# EAGLE library part NANO (library Arduino-clone)
Arduino Nano
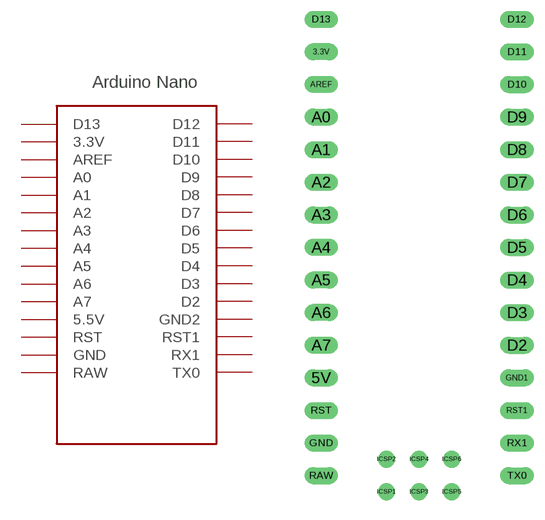
[diagram p3: symbol with the pads of NANO; footprint NANO]

Designator prefix -

## NANO  [NANO]
3.3V  3.3V
5V  5.5V
A0  A0
A1  A1
A2  A2
A3  A3
A4  A4
A5  A5
A6  A6
A7  A7
AREF  AREF
D2  D2
D3  D3
D4  D4
D5  D5
D6  D6
D7  D7
D8  D8
D9  D9
D10  D10
D11  D11
D12  D12
D13  D13
GND  GND
GND1  GND2
ICSP1  ICSP1
ICSP2  ICSP2
ICSP3  ICSP3
ICSP4  ICSP4
ICSP5  ICSP5
ICSP6  ICSP6
RAW  RAW
RST  RST
RST1  RST1
RX1  RX1
TX0  TX0

## Footprint NANO (pad centres in mm)
drill 0.8 long: 3.3V -7.62,19.05; 5V -7.62,-6.35; A0 -7.62,13.97; A1 -7.62,11.43; A2 -7.62,8.89; A3 -7.62,6.35; A4 -7.62,3.81; A5 -7.62,1.27; A6 -7.62,-1.27; A7 -7.62,-3.81; AREF -7.62,16.51; D2 7.62,-3.81; D3 7.62,-1.27; D4 7.62,1.27; D5 7.62,3.81; D6 7.62,6.35; D7 7.62,8.89; D8 7.62,11.43; D9 7.62,13.97; D10 7.62,16.51; D11 7.62,19.05; D12 7.62,21.59; D13 -7.62,21.59; GND -7.62,-11.43; GND1 7.62,-6.35; RAW -7.62,-13.97; RST -7.62,-8.89; RST1 7.62,-8.89; RX1 7.62,-11.43; TX0 7.62,-13.97
drill 0.8: ICSP1 -2.54,-15.24; ICSP2 -2.54,-12.7; ICSP3 0,-15.24; ICSP4 0,-12.7; ICSP5 2.54,-15.24; ICSP6 2.54,-12.7